# EAGLE library part 2MM-1X6-HEADER (library DAC)
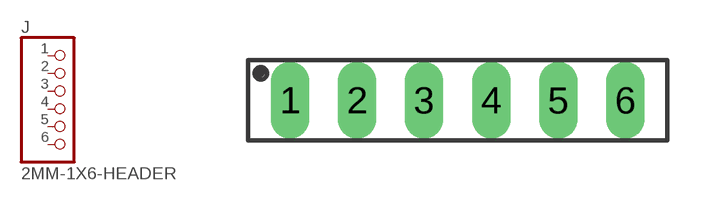
[diagram p37: symbol with the pads of 1X06_2MMFE; footprint 1X06_2MMFE]

Designator prefix J

## 2MM-1X6-HEADER  [1X06_2MMFE]
1  1  pas
2  2  pas
3  3  pas
4  4  pas
5  5  pas
6  6  pas

## Footprint 1X06_2MMFE (pad centres in mm)
drill 0.635 long: 1 -5,0; 2 -3,0; 3 -1,0; 4 1,0; 5 3,0; 6 5,0